# EAGLE library part AD8542ARMZ-REEL (library AD8542ARMZ-REEL)
Single-supply operation: 2.7 V to 5.5 V Low supply current: 45 A/amplifier Wide bandwidth: 1 MHz No phase reversal Low input currents: 4 pA Unity gain stable Rail-to-rail input and output AEC-Q100 qualified for automotive applications Source: Datasheet <https://www.analog.com/AD8542/datasheet>
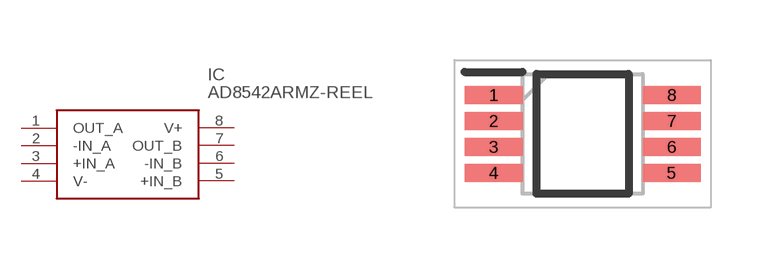
[diagram p0: symbol with the pads of SOP65P490X110-8N; footprint SOP65P490X110-8N]

Designator prefix IC

## AD8542ARMZ-REEL (Arrow_Part_Number: AD8542ARMZ-REEL; Arrow_Price-Stock: https://www.arrow.com/en/products/ad8542armz-reel/analog-devices?utm_currency=USD&region=nac; Description: Single-supply operation: 2.7 V to 5.5 V Low supply current: 45 A/amplifier Wide bandwidth: 1 MHz No phase reversal Low input currents: 4 pA Unity gain stable Rail-to-rail input and output AEC-Q100 qualified for automotive applications; Height: 1.1mm; Manufacturer_Name: Analog Devices; Manufacturer_Part_Number: AD8542ARMZ-REEL; Mouser_Part_Number: 584-AD8542ARMZ-R; Mouser_Price-Stock: https://www.mouser.co.uk/ProductDetail/Analog-Devices/AD8542ARMZ-REEL?qs=%2FtpEQrCGXCzeOxAKFphJiQ%3D%3D)  [SOP65P490X110-8N]
1  OUT_A
2  -IN_A
3  +IN_A
4  V-
5  +IN_B
6  -IN_B
7  OUT_B
8  V+

## Footprint SOP65P490X110-8N (pad centres in mm)
8-Lead Mini Small Outline Package [MSOP] (RM-8)
smd 1.45 x 0.45: 1 -2.225,0.975; 2 -2.225,0.325; 3 -2.225,-0.325; 4 -2.225,-0.975; 5 2.225,-0.975; 6 2.225,-0.325; 7 2.225,0.325; 8 2.225,0.975